# Altium footprint library myPcbLib1.PcbLib: 151 footprints (part 6 of 10)
Each footprint in its own frame and in the unit in brackets; x right, y up, seen from the top. Pads: shape width x height; smd on the part's side, far side on the other; paste and mask are expansions set on the pad; w line width, h text height; cw(c..) or ccw(c..) is an arc to the next point about the centre after c.
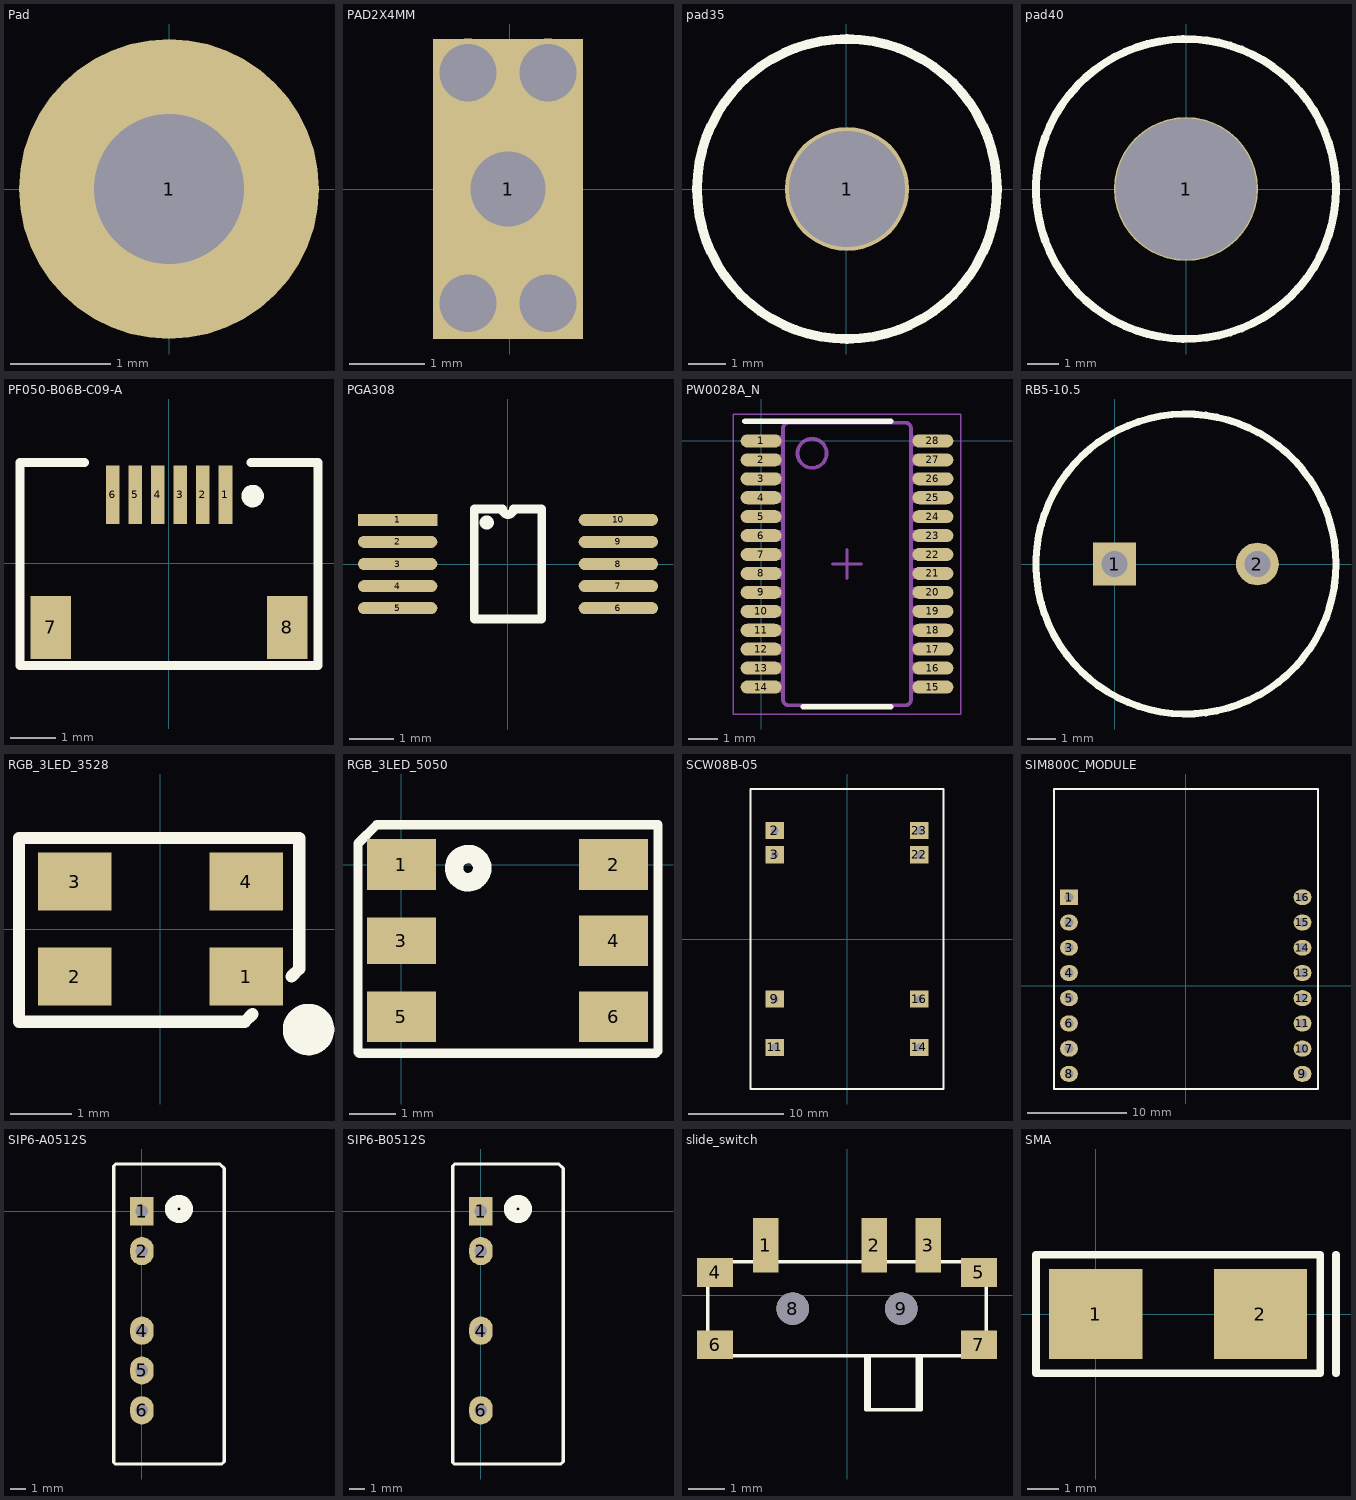
[diagram p5: the footprints below, top view; thin cyan lines are the x and y axes]

## Pad [mm]
pads (1):
  round 3 hole 1.5: 1(0,0)

## PAD2X4MM [mm]
pads (1):
  rect 2x4 hole 1: 1(-0.025,0)
via 0.508,-1.524 diameter 0.914 hole 0.762
via -0.559,-1.524 diameter 0.914 hole 0.762
via -0.559,1.549 diameter 0.914 hole 0.762
via 0.508,1.549 diameter 0.914 hole 0.762

## pad35 [mm]
pads (1):
  round 3.3 hole 3.1: 1(0.025,0)
Top Overlay:
  circle w0.254: c0.025,0 r4

## pad40 [mm]
pads (1):
  round 4.6 hole 4.5: 1(0,0)
Top Overlay:
  circle w0.254: c0,0 r4.8

## PF050-B06B-C09-A [mil]
pads (8):
  rect 12x51 smd: 1(49.25,59.84) 2(29.57,59.84) 3(9.88,59.84) 4(-9.8,59.84) 5(-29.49,59.84) 6(-49.17,59.84)
  rect 35.43x55.12 smd: 7(-103.39,-55.91) 8(103.39,-55.91)
Top Overlay:
  circle w9.84: c72.98,58.81 r4.92
  lines w7.87: -73.65,88 -130,88 -130,-89 130,-89 130,88 71.5,88

## PGA308 [mm]
pads (10):
  rect 1.8x0.27 smd: 1(-2.5,1)
  oval 1.8x0.27 smd: 2(-2.5,0.5) 3(-2.5,0) 4(-2.5,-0.5) 5(-2.5,-1) 6(2.5,-1) 7(2.5,-0.5) 8(2.5,0) 9(2.5,0.5) 10(2.5,1)
Top Overlay:
  circle w0.25: c-0.483,0.94 r0.036
  lines w0.2: -0.765,-1.25 -0.765,1.25 -0.125,1.25 ccw(c0,1.25) 0.125,1.25 0.765,1.25 0.765,-1.25 -0.765,-1.25

## PW0028A_N [mm]
pads (28):
  oval 1.4x0.45 smd: 1(0,0) 2(0,-0.65) 3(0,-1.3) 4(0,-1.95) 5(0,-2.6) 6(0,-3.25) 7(0,-3.9) 8(0,-4.55) 9(0,-5.2) 10(0,-5.85) 11(0,-6.5) 12(0,-7.15) 13(0,-7.8) 14(0,-8.45) 15(5.9,-8.45) 16(5.9,-7.8) 17(5.9,-7.15) 18(5.9,-6.5) 19(5.9,-5.85) 20(5.9,-5.2) 21(5.9,-4.55) 22(5.9,-3.9) 23(5.9,-3.25) 24(5.9,-2.6) 25(5.9,-1.95) 26(5.9,-1.3) 27(5.9,-0.65) 28(5.9,0)
Top Overlay:
  lines w0.2: -0.55,0.675 4.45,0.675 ; 1.45,-9.125 4.45,-9.125
Mechanical 5:
  drawing of 346 lines, arcs and shapes, not listed
Mechanical 15:
  lines w0.05: -0.95,-9.375 -0.95,0.925 6.85,0.925 6.85,-9.375 -0.95,-9.375
  lines w0.1: 2.45,-4.225 3.45,-4.225 ; 2.95,-4.725 2.95,-3.725
3D body: height 1, standoff 0, extent -0.26,-9.075 6.16,0.625

## RB5-10.5 [mm] "Motor, General Kind; 2 Leads"
pads (2):
  rect 1.5x1.5 hole 0.9: 1(0,0)
  round 1.5 hole 0.9: 2(5,0)
Top Overlay:
  circle w0.25: c2.5,0 r5.25
Mechanical 1:
  circle w0.02: c2.5,0 r5.25

## RGB_3LED_3528 [mm]
pads (4):
  rect 1.2x0.95 smd: 1(1.4,-0.775) 2(-1.4,-0.775) 3(-1.4,0.775) 4(1.4,0.775)
Top Overlay:
  circle w0.5: c2.416,-1.639 r0.17
  lines w0.2: 1.502,-1.385 1.375,-1.512 1.324,-1.512 -2.308,-1.512 -2.308,1.486 2.264,1.486 2.264,-0.623 2.264,-0.648 2.137,-0.775

## RGB_3LED_5050 [mm]
pads (6):
  rect 1.5x1.1 smd: 1(0,0) 2(4.6,0) 4(4.6,-1.65) 5(0,-3.3) 6(4.6,-3.3)
  rect 1.5x1 smd: 3(0,-1.65)
Top Overlay:
  circle w0.4: c1.448,-0.076 r0.306
  lines w0.2: -0.94,-4.064 -0.914,-4.089 5.512,-4.089 5.563,-4.039 5.563,0.864 -0.533,0.864 -0.94,0.457 -0.94,-4.064

## SCW08B-05 [mm]
pads (8):
  rect 2x1.8 hole 0.8: 2(-7.62,11.43) 3(-7.62,8.89) 9(-7.62,-6.35) 11(-7.62,-11.43) 14(7.62,-11.43) 16(7.62,-6.35) 22(7.62,8.89) 23(7.62,11.43)
Top Overlay:
  lines w0.2: -10.16,-15.824 -10.16,15.824 10.16,15.824 10.16,-15.824 -10.16,-15.824

## SIM800C_MODULE [mm]
pads (16):
  rect 1.8x1.6 hole 0.9: 1(-11.75,8.89)
  oval 1.8x1.6 hole 0.9: 2(-11.75,6.35) 3(-11.75,3.81) 4(-11.75,1.27) 5(-11.75,-1.27) 6(-11.75,-3.81) 7(-11.75,-6.35) 8(-11.75,-8.89) 9(11.75,-8.89) 10(11.75,-6.35) 11(11.75,-3.81) 12(11.75,-1.27) 13(11.75,1.27) 14(11.75,3.81) 15(11.75,6.35) 16(11.75,8.89)
Top Overlay:
  lines w0.2: -13.274,-10.414 -13.274,19.787 13.32,19.787 13.32,-10.414 -13.274,-10.414

## SIP6-A0512S [mm]
pads (5):
  rect 1.5x1.8 hole 0.8: 1(0,0)
  oval 1.5x1.8 hole 0.8: 2(0,-2.54) 4(0,-7.62) 5(0,-10.16) 6(0,-12.7)
Top Overlay:
  circle w0.8: c2.362,0.152 r0.493
  lines w0.203: -1.803,-16.027 -1.803,2.896 -1.676,3.023 4.978,3.023 5.258,2.743 5.258,-15.977 5.105,-16.129 -1.702,-16.129 -1.803,-16.027

## SIP6-B0512S [mm]
pads (4):
  rect 1.5x1.8 hole 0.8: 1(0,0)
  oval 1.5x1.8 hole 0.8: 2(0,-2.54) 4(0,-7.62) 6(0,-12.7)
Top Overlay:
  circle w0.8: c2.362,0.152 r0.493
  lines w0.203: -1.803,-16.027 -1.702,-16.129 5.105,-16.129 5.258,-15.977 5.258,2.743 4.978,3.023 -1.676,3.023 -1.803,2.896 -1.803,-16.027

## slide_switch [mm]
pads (9):
  rect 0.7x1.5 smd: 1(-2.25,1.375) 2(0.75,1.375) 3(2.25,1.375)
  rect 1x0.8 smd: 4(-3.65,0.625) 5(3.65,0.625) 6(-3.65,-1.375) 7(3.65,-1.375)
  round 0.9 hole 0.9 unplated: 8(-1.5,-0.375) 9(1.5,-0.375)
Top Overlay:
  lines w0.1: 0.616,-3.175 0.616,-1.675 ; 1.952,-3.175 1.952,-1.675 ; -3.85,-1.675 3.85,-1.675 3.85,0.925 -3.85,0.925 -3.85,-1.675 ; 0.516,-3.175 2.052,-3.175 2.052,-1.675 0.516,-1.675 0.516,-3.175

## SMA [mm]
pads (2):
  rect 3x2.9 smd: 1(0,0) 2(5.3,0)
Top Overlay:
  lines w0.254: 7.73,-1.905 7.73,1.905 ; -1.922,-1.905 7.222,-1.905 7.222,1.905 -1.922,1.905 -1.922,-1.905